# Altium footprint library LYz.PcbLib: 52 footprints (part 3 of 4)
Each footprint in its own frame and in the unit in brackets; x right, y up, seen from the top. Pads: shape width x height; smd on the part's side, far side on the other; paste and mask are expansions set on the pad; w line width, h text height; cw(c..) or ccw(c..) is an arc to the next point about the centre after c.
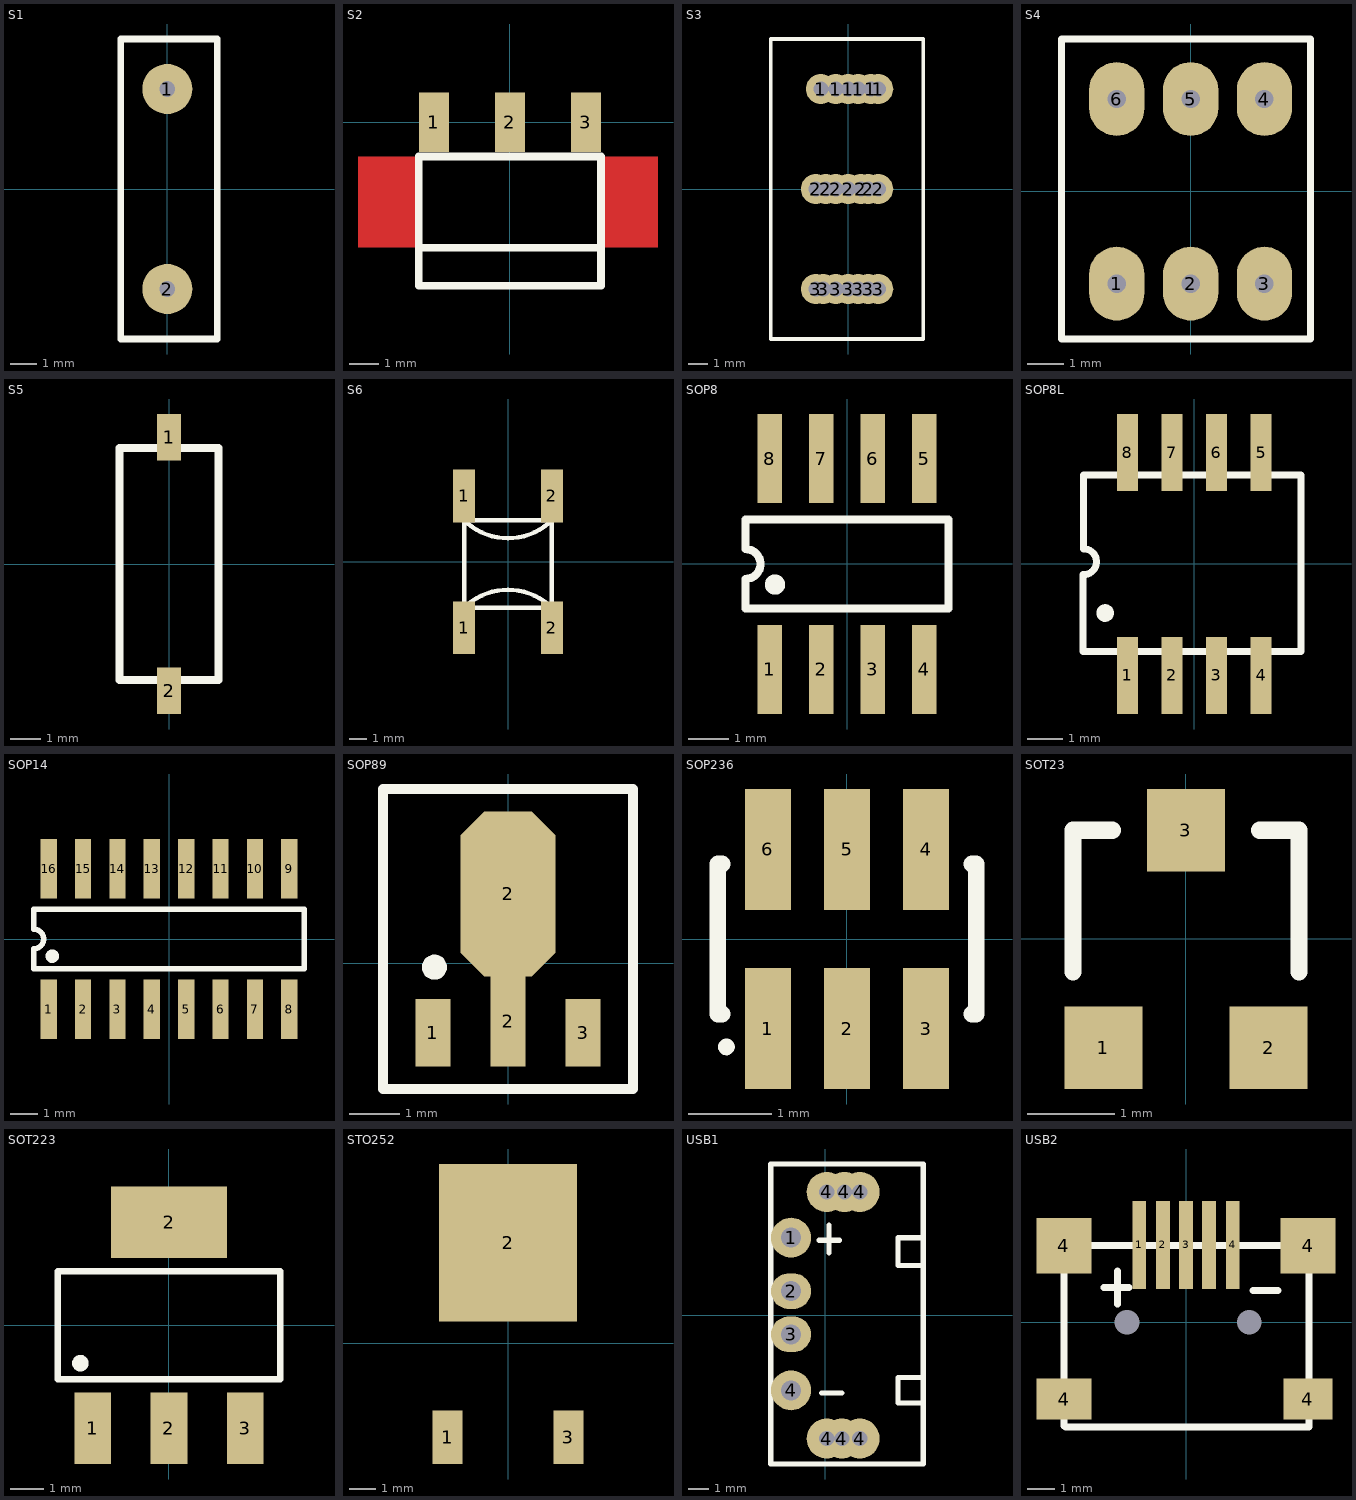
[diagram p2: the footprints below, top view; thin cyan lines are the x and y axes]

## S1 [mm]
pads (2):
  round 1.905 hole 0.6: 1(0,3.81) 2(0,-3.81)
Top Overlay:
  lines w0.254: -1.778,-5.715 -1.778,5.715 1.905,5.715 1.905,-5.715 -1.778,-5.715

## S2 [mm]
pads (3):
  rect 1x2 smd: 1(-2.54,0) 2(0,0) 3(2.54,0)
Top Layer:
  rectangle: 3.048,-4.191 4.953,-1.143
  rectangle: -5.08,-4.191 -3.048,-1.143
Top Overlay:
  lines w0.254: -3.048,-4.191 -3.048,-1.143 3.048,-1.143 3.048,-4.191 ; -3.048,-4.191 3.048,-4.191 ; -3.048,-4.191 -3.048,-5.461 3.048,-5.461 3.048,-4.191

## S3 [mil]
pads (20):
  round 60 hole 30: 1(-55,200) 1(-25,200) 1(0,200) 1(20,200) 1(45,200) 1(60,200) 2(-65,0) 2(-45,0) 2(-25,0) 2(0,0) 2(25,0) 2(40,0) 2(60,0) 3(-65,-200) 3(-50,-200) 3(-25,-200) 3(0,-200) 3(20,-200) 3(40,-200) 3(60,-200)
Top Overlay:
  lines w7.87: -155,-300 -155,300 150,300 150,-300 -155,-300

## S4 [mil]
pads (6):
  oval 60x80 hole 20: 1(-80,-100) 2(0,-100) 3(80,-100) 4(80,100) 5(0,100) 6(-80,100)
Top Overlay:
  lines w7.87: -140,-160 130,-160 130,165 -140,165 -140,-160

## S5 [mil]
pads (2):
  rect 31.5x60 smd: 1(0,164) 2(0,-164)
Top Overlay:
  lines w10: -64,-150 -64,150 64,150 64,-150 -64,-150

## S6 [mil]
pads (4):
  rect 50x120 smd: 1(-100,-150) 1(-100,150) 2(100,-150) 2(100,150)
Top Overlay:
  lines w10: -100,-105 cw(c0,-205) 100,-105 ; -100,-105 -100,95 ; -100,-105 100,-105 ; -100,95 ccw(c0,195) 100,95 ; -100,95 100,95 ; 100,-105 100,95

## SOP8 [mm]
pads (8):
  rect 0.6x2.2 smd: 1(-1.905,-2.6) 2(-0.635,-2.6) 3(0.635,-2.6) 4(1.905,-2.6) 5(1.905,2.6) 6(0.635,2.6) 7(-0.635,2.6) 8(-1.905,2.6)
Top Overlay:
  circle w0.25: c-1.776,-0.508 r0.125
  lines w0.2: -2.5,-1.1 -2.5,-0.367 ccw(c-2.5,0) -2.5,0.367 -2.5,1.1 2.5,1.1 2.5,-1.1 -2.5,-1.1

## SOP8L [mm]
pads (8):
  rect 0.6x2.2 smd: 1(-1.905,-3.175) 2(-0.635,-3.175) 3(0.635,-3.175) 4(1.905,-3.175) 5(1.905,3.175) 6(0.635,3.175) 7(-0.635,3.175) 8(-1.905,3.175)
Top Overlay:
  circle w0.25: c-2.538,-1.397 r0.125
  lines w0.2: -3.175,-0.302 -3.175,-2.497 3.048,-2.497 3.048,2.54 -3.15,2.54 -3.15,0.432 cw(c-3.15,0.065) -3.15,-0.302

## SOP14 [mm]
pads (16):
  rect 0.6x2.2 smd: 1(-4.445,-2.6) 2(-3.175,-2.6) 3(-1.905,-2.6) 4(-0.635,-2.6) 5(0.635,-2.6) 6(1.905,-2.6) 7(3.175,-2.6) 8(4.445,-2.6) 9(4.445,2.6) 10(3.175,2.6) 11(1.905,2.6) 12(0.635,2.6) 13(-0.635,2.6) 14(-1.905,2.6) 15(-3.175,2.6) 16(-4.445,2.6)
Top Overlay:
  circle w0.25: c-4.316,-0.635 r0.125
  lines w0.2: -5,-1.1 -5,-0.367 ccw(c-5,0) -5,0.367 -5,1.1 5,1.1 5,-1.1 -5,-1.1

## SOP89 [mm]
pads (4):
  rect 0.7x1.35 smd: 1(-1.5,-1.388) 3(1.5,-1.388)
  rect 0.7x1.8 smd: 2(0,-1.162)
  oct 1.9x3.3 smd: 2(0,1.388)
Top Overlay:
  circle w0.25: c-1.471,-0.076 r0.125
  lines w0.2: -2.5,-2.512 2.5,-2.512 2.5,3.487 -2.5,3.487 -2.5,-2.512

## SOP236 [mm]
pads (6):
  rect 0.55x1.45 smd: 1(-0.95,-1.075) 2(0,-1.075) 3(0.95,-1.075) 4(0.95,1.075) 5(0,1.075) 6(-0.95,1.075)
Top Overlay:
  circle w0.1: c-1.447,-1.295 r0.05
  lines w0.2: -1.5,-0.9 -1.55,-0.9 -1.55,0.9 -1.5,0.9 ; 1.5,-0.9 1.55,-0.9 1.55,0.9 1.5,0.9

## SOT23 [mm]
pads (3):
  rect 0.9x0.95 smd: 1(-0.95,-1.25) 2(0.95,-1.25) 3(0,1.25)
Top Overlay:
  lines w0.2: -1.3,-0.375 -1.3,1.25 -0.85,1.25 ; 0.85,1.25 1.3,1.25 1.3,-0.375

## SOT223 [mm]
pads (4):
  rect 1.1x2.15 smd: 1(-2.3,-3.1) 2(0,-3.1) 3(2.3,-3.1)
  rect 3.5x2.15 smd: 2(0,3.1)
Top Overlay:
  circle w0.25: c-2.665,-1.143 r0.125
  lines w0.2: -3.35,-1.625 -3.35,1.625 3.35,1.625 3.35,-1.625 -3.35,-1.625

## STO252 [mil]
pads (3):
  rect 44.88x80 smd: 1(-90,-140) 3(90,-140)
  rect 205.12x235.04 smd: 2(0,150)

## USB1 [mil]
pads (10):
  round 78.74 hole 39.37: 1(-67.5,152.5) 4(-67.5,-147.5)
  oval 78.74x70 hole 39.37: 2(-67.5,47.5) 3(-67.5,-37.5)
  round 78.74 hole 30: 4(2.5,-242.5) 4(2.5,242.5) 4(32.5,-242.5) 4(37.5,242.5) 4(67.5,-242.5) 4(67.5,242.5)
Top Overlay:
  lines w10: -12.5,147.5 27.5,147.5 ; -7.5,-152.5 32.5,-152.5 ; 7.5,122.5 7.5,177.5 ; 192.5,-172.5 142.5,-172.5 142.5,-122.5 192.5,-122.5 ; 192.5,-167.5 192.5,-117.5 ; -107.5,-292.5 -107.5,297.5 192.5,297.5 192.5,-292.5 -107.5,-292.5 ; 142.5,97.5 142.5,152.5 192.5,152.5 192.5,97.5 142.5,97.5

## USB2 [mm]
pads (11):
  rect 0.5x3.2 smd: 1(-1.702,2.807) 2(-0.838,2.807) 3(0,2.807) 4(1.702,2.807) ""(0.838,2.807)
  rect 2x2.032 smd: 4(-4.45,2.781) 4(4.45,2.781)
  rect 2x1.5 smd: 4(-4.445,-2.807)
  rect 1.8x1.5 smd: 4(4.445,-2.807)
  rect 0x0 hole 0.9: ""(-2.149,-0.013) ""(2.302,-0.013)
Top Overlay:
  lines w0.254: -4.45,-3.782 -4.45,2.781 0,2.781 4.45,2.781 ; -4.394,-3.823 4.479,-3.823 ; -2.997,1.257 -2.083,1.257 ; -2.489,0.648 -2.489,1.867 ; 2.438,1.156 3.353,1.156 ; 4.475,-3.797 4.475,2.781